# Altium schematic symbol library 35RAPC4BH3.SchLib: 1 symbol
Pins are listed as number, name and electrical type; pins without a type are passive.

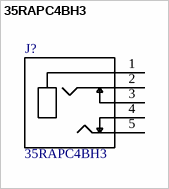
[diagram p0: symbol 35RAPC4BH3]

## 35RAPC4BH3
designator J?
3.50mm _0.141, 1/8, Mini Plug_ - Headphone Phone Jack Stereo _3 Conductor, TRS_ Connector Solder; MF: Switchcraft Inc.; SnapEDA_Link: https://www.snapeda.com/parts/35RAPC4BH3/Switchcraft%20Inc./view-part/621325/?ref=snap; Availability: Unavailable; Package: None; MP: 35RAPC4BH3; Price: None; Value: *
footprint *SWITCHCRAFT_35RAPC4BH3
pins: 1, 2, 3, 4, 5